# Altium schematic symbol library Mounting_Hole_M3.SchLib: 1 symbol
Pins are listed as number, name and electrical type; pins without a type are passive.

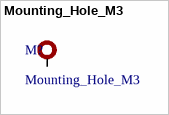
[diagram p0: symbol Mounting_Hole_M3]

## Mounting_Hole_M3
designator M?
Mounting Hole_D3mm
footprint Mounting Hole_M3
pins: 1 M?